# Altium integrated library HORNET-IPG.IntLib: 137 symbols (part 3 of 4)
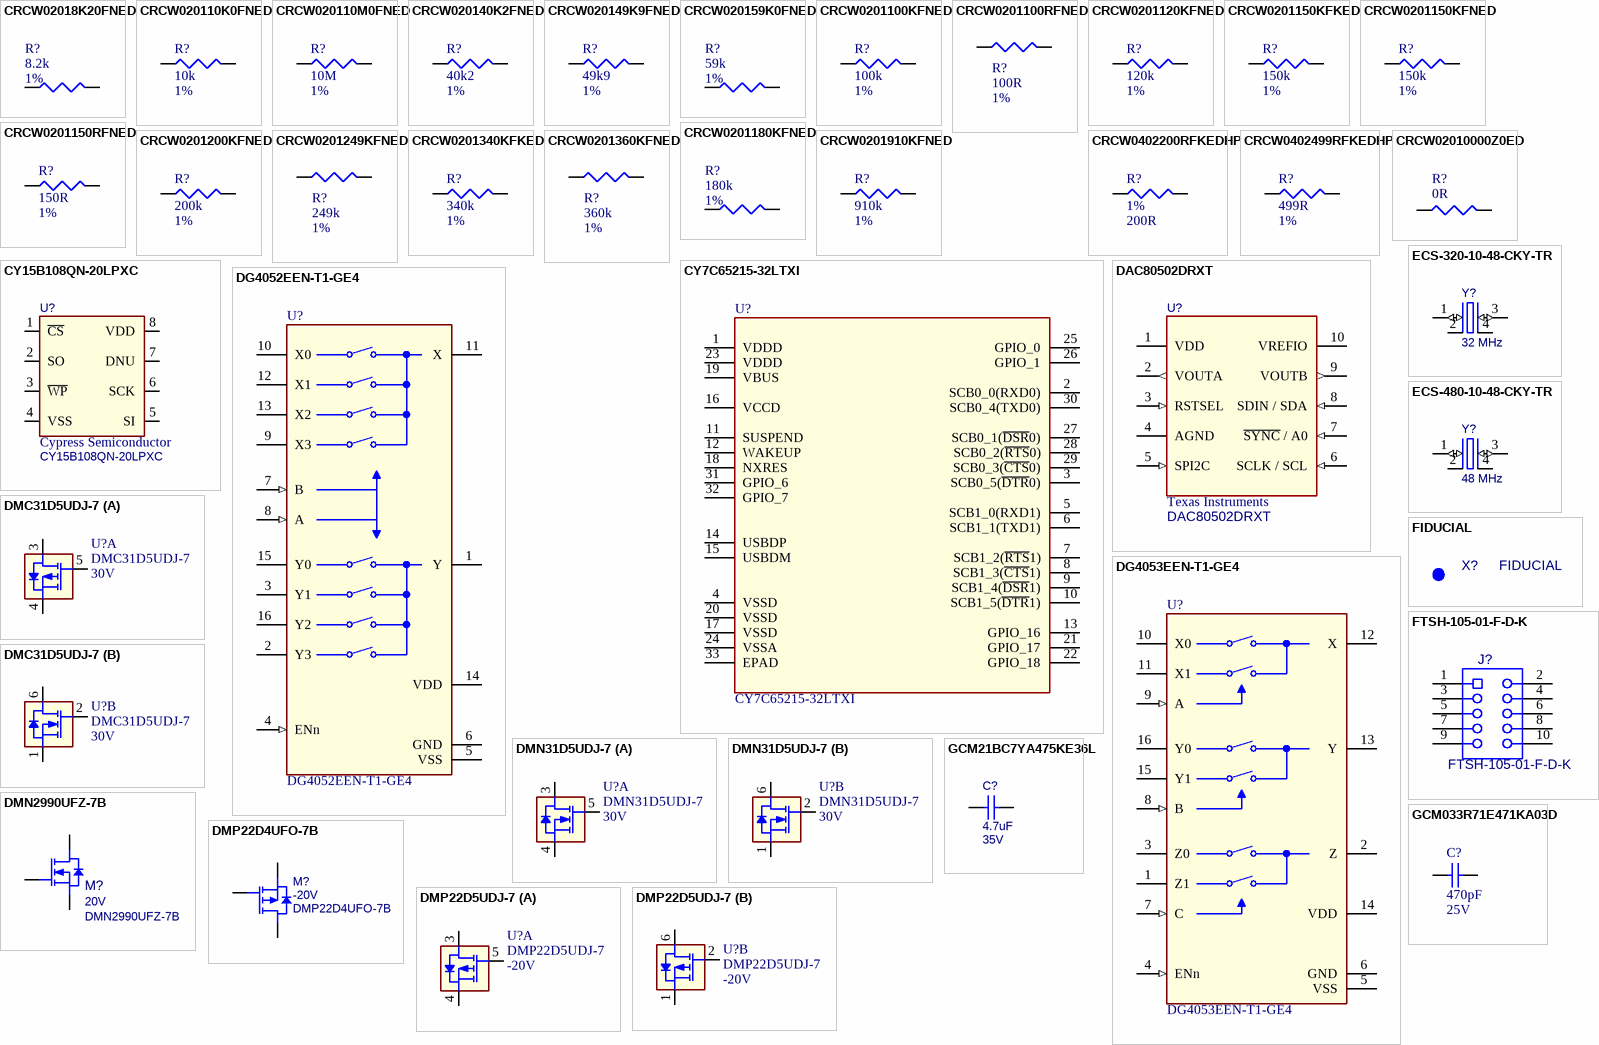
[diagram p6: symbols CRCW02018K20FNED to GCM033R71E471KA03D]

## CRCW0201360KFNED
designator R?  value 360k  Tolerance: 1%  (hidden comment: CRCW0201360KFNED)
Fixed Resistor, Metal Glaze/thick Film, 0.05W, 360000ohm, 30V, 1% +/-Tol, 200ppm/Cel, Surface Mount, 0201; Manufacturer: Vishay; Medical Grade MFR: TBD; Power: 50mW; Rated Temperature: 70°C; Temperature Coefficient: 200ppm/°C; Package Height: 0.23mm; Package Length: 0.6mm; Package Width: 0.3mm; Reference Standard: AEC-Q200; Category: Chip SMD Resistors; Supplier: Digikey; Supplier Part Number: 541-CRCW0201360KFNEDCT-ND; Manufacturer Part Number: CRCW0201360KFNED; RoHS: Yes; Stock: 14607; Pricing: 1=0,1, 10=0,037, 50=0,0242, 100=0,0204, 500=0,01426, 1000=0,01241, 5000=0,00924 (USD); Mounting Technology: Surface Mount; Pins: 2; Package Shape: Rectangular; Case/Package: 0201; Terminal Finish: Nickel; Min Operating Temperature: -55°C; Max Operating Temperature: 155°C; JESD-609 Code: e3; Resistor Type: FIXED RESISTOR; Construction: Chip; Package Style: SMTMeter; Packaging: Tape and Reel; Technology: METAL GLAZE/THICK FILM; Termination: Wraparound; Working Voltage: 30V; Reach SVHC Compliant: Yes; RoHS Compliant: Yes; ComponentLink1URL: https://datasheet.ciiva.com:443/pdfs/VipMasterIC/IC/VISH/VISH-S-A0002932828/VISH-S-A0002932828-1.pdf?src-supplier=IHS+Markit; ComponentLink1Description: https://datasheet.ciiva.com:443/pdfs/VipMasterIC/IC/VISH/VISH-S-A0002932828/VISH-S-A0002932828-1.pdf?src-supplier=IHS+Markit; ComponentLink2URL: https://datasheet.ciiva.com/2577/crcw0201e3-2577346.pdf?src-supplier=Digikey; ComponentLink2Description: https://datasheet.ciiva.com/2577/crcw0201e3-2577346.pdf?src-supplier=Digikey; ComponentLink3URL: https://datasheet.ciiva.com/8943/crcw0201e3-8943180.pdf?src-supplier=Avnet; ComponentLink3Description: https://datasheet.ciiva.com/8943/crcw0201e3-8943180.pdf?src-supplier=Avnet; ComponentLink4URL: https://datasheet.ciiva.com/22674/1700795-22674747.pdf?src-supplier=Element14; ComponentLink4Description: https://datasheet.ciiva.com/22674/1700795-22674747.pdf?src-supplier=Element14; ComponentLink5URL: https://datasheet.ciiva.com/22706/1719906-22706189.pdf?src-supplier=Element14; ComponentLink5Description: https://datasheet.ciiva.com/22706/1719906-22706189.pdf?src-supplier=Element14; ComponentLink6URL: https://datasheet.ciiva.com/7673/1719906-7673964.pdf?src-supplier=Element14; ComponentLink6Description: https://datasheet.ciiva.com/7673/1719906-7673964.pdf?src-supplier=Element14; ComponentLink7URL: https://datasheet.ciiva.com/7673/1719906-7673965.pdf?src-supplier=Element14; ComponentLink7Description: https://datasheet.ciiva.com/7673/1719906-7673965.pdf?src-supplier=Element14; Medical Grade MFR PN: TBD; Supplier 1: Digikey; Supplier Part Number 1: 541-CRCW0201360KFNEDCT-ND
footprint R0201_C (Chip Resistor, 2-Leads, Body 0.60x0.30mm, IPC High Density)
pins: 1, 2

## CRCW0201910KFNED
designator R?  value 910k  Tolerance: 1%  (hidden comment: CRCW0201910KFNED)
Fixed Resistor, Metal Glaze/thick Film, 0.05W, 910000ohm, 30V, 1% +/-Tol, 200ppm/Cel, Surface Mount, 0201; Manufacturer: Vishay Draloric; Medical Grade MFR: TBD; Power: 50mW; Rated Temperature: 70°C; Temperature Coefficient: 200ppm/°C; Category: Chip SMD Resistors; Supplier: Digikey; Supplier Part Number: 541-CRCW02016M80FNEDCT-ND; Manufacturer Part Number: CRCW0201910KFNED; RoHS: Yes; Stock: 8955; Pricing: 1=0,1, 10=0,037, 50=0,0242, 100=0,0204, 500=0,01426, 1000=0,01241, 5000=0,00924 (USD); Mounting Technology: Surface Mount; Pins: 2; Package Shape: Rectangular; Case/Package: 0201; Terminal Finish: Nickel; Min Operating Temperature: -55°C; Max Operating Temperature: 155°C; JESD-609 Code: e3; Resistor Type: FIXED RESISTOR; Packaging: Tape and Reel; Technology: METAL GLAZE/THICK FILM; Termination: Wraparound; Working Voltage: 30V; Reach SVHC Compliant: Yes; RoHS Compliant: Yes; ComponentLink1URL: https://datasheet.ciiva.com:443/pdfs/VipMasterIC/IC/VISH/VISH-S-A0002932828/VISH-S-A0002932828-1.pdf?src-supplier=IHS+Markit; ComponentLink1Description: https://datasheet.ciiva.com:443/pdfs/VipMasterIC/IC/VISH/VISH-S-A0002932828/VISH-S-A0002932828-1.pdf?src-supplier=IHS+Markit; ComponentLink2URL: https://datasheet.ciiva.com/22682/1700795-22682637.pdf?src-supplier=Element14; ComponentLink2Description: https://datasheet.ciiva.com/22682/1700795-22682637.pdf?src-supplier=Element14; Medical Grade MFR PN: TBD; Supplier 1: Digikey; Supplier Part Number 1: 541-CRCW0201910KFNEDDKR-ND
footprint R0201_C (Chip Resistor, 2-Leads, Body 0.60x0.30mm, IPC High Density)
pins: 1, 2

## CRCW0402200RFKEDHP
designator R?  value 200R  Tolerance: 1%  (hidden comment: CRCW0402200RFKEDHP)
Resistor 200 1%, 0402, Non Implant-grade; Manufacturer: Vishay; Medical Grade Manufacturer: None; Power: 200 mW; Temperature Coefficient: 100 ppm/°C; Voltage Rating: 50V; Category: Resistor; Manufacturer Part Number: CRCW0402200RFKEDHP; Medical Grade Manufacturer Part Number: None; Size Code: 0402; Supplier: TBD; Supplier Part Number: TBD; Height: 0.3mm; Width: 0.5mm; Length: 1mm; Supplier 1: Mouser; Supplier Part Number 1: 71-CRCW0402200RFKEDH; Supplier 2: Digikey; Supplier Part Number 2: 541-200YCT-ND; Supplier 3: Digikey; Supplier Part Number 3: 541-200YDKR-ND; Supplier 4: Digikey; Supplier Part Number 4: 541-200YTR-ND
footprint RES0402_REDUCED (Chip Resistor, Body 1.0x0.5mm, IPC High Density)
pins: 1, 2

## CRCW0402499RFKEDHP
designator R?  value 499R  Tolerance: 1%  (hidden comment: CRCW0402499RFKEDHP)
Fixed Resistor, Metal Glaze/thick Film, 0.2W, 499ohm, 50V, 1% +/-Tol, 100ppm/Cel, Surface Mount, 0402; Manufacturer: Vishay Dale; Manufacturer Series: CRCW-HPE3; Medical Grade MFR: TBD; Power: 200mW; Rated Temperature: 70°C; Temperature Coefficient: 100ppm/°C; Package Height: 0.3mm; Package Length: 1mm; Package Width: 0.5mm; Reference Standard: AEC-Q200; Supplier: Digikey; Supplier Part Number: 541-499YCT-ND; Manufacturer Part Number: CRCW0402499RFKEDHP; RoHS: Yes; Category: Chip SMD Resistors; Stock: 50100; Pricing: 1=0.13, 10=0.061, 50=0.0402, 100=0.0341, 500=0.024, 1000=0.02091, 5000=0.01572 (USD); Mounting Technology: Surface Mount; Pins: 2; Package Shape: Rectangular; Case/Package: 0402; Terminal Finish: Nickel; Min Operating Temperature: -55°C; Max Operating Temperature: 155°C; JESD-609 Code: e3; Resistor Type: FIXED RESISTOR; Construction: Chip; Package Style: SMTMeter; Packaging: Tape and Reel; Series: CRCW-HP E3; Technology: METAL GLAZE/THICK FILM; Termination: Wraparound; Working Voltage: 50V; Reach SVHC Compliant: Yes; RoHS Compliant: Yes; ComponentLink1URL: https://datasheet.ciiva.com:443/pdfs/VipMasterIC/IC/VISH/VISH-S-A0009391795/VISH-S-A0009391795-1.pdf?src-supplier=IHS+Markit; ComponentLink1Description: https://datasheet.ciiva.com:443/pdfs/VipMasterIC/IC/VISH/VISH-S-A0009391795/VISH-S-A0009391795-1.pdf?src-supplier=IHS+Markit; ComponentLink2URL: https://datasheet.ciiva.com/5540/crcwhpe3-46056-5540816.pdf?src-supplier=Mouser; ComponentLink2Description: https://datasheet.ciiva.com/5540/crcwhpe3-46056-5540816.pdf?src-supplier=Mouser; ComponentLink3URL: https://datasheet.ciiva.com/8932/crcwhpe3-8932421.pdf?src-supplier=Avnet; ComponentLink3Description: https://datasheet.ciiva.com/8932/crcwhpe3-8932421.pdf?src-supplier=Avnet; Supplier 1: Mouser; Supplier Part Number 1: 71-CRCW0402499RFKEDH; Medical Grade MFR PN: TBD
footprint RES0402_REDUCED (Chip Resistor, Body 1.0x0.5mm, IPC High Density)
footprint R0402 (R0402_B generated by IPC compliant footprint wizard)
pins: 1, 2

## CRCW02010000Z0ED
designator R?  value 0R  (hidden comment: CRCW02010000Z0ED)
Fixed Resistor, Metal Glaze/thick Film, 0.05W, 0ohm, Surface Mount, 0201; Manufacturer: Vishay; Medical Grade MFR: Mini-Systems; Medical Grade MFR PN: MWA96SM-0000F-NS62TR; Power: 50mW; Rated Temperature: 70°C; Package Height: 0.23mm; Package Length: 0.6mm; Package Width: 0.3mm; Reference Standard: AEC-Q200; Category: Chip SMD Resistors; Supplier: Digikey; Supplier Part Number: 541-0.0AGCT-ND; Manufacturer Part Number: CRCW02010000Z0ED; RoHS: Yes; Stock: 701366; Pricing: 1=0,1, 10=0,034, 25=0,026, 50=0,0198, 100=0,0138, 250=0,01112, 500=0,0089, 1000=0,00655, 5000=0,0047 (USD); Mounting Technology: Surface Mount; Pins: 2; Package Shape: Rectangular; Case/Package: 0201; Terminal Finish: Nickel; Min Operating Temperature: -55°C; Max Operating Temperature: 155°C; JESD-609 Code: e3; Resistor Type: FIXED RESISTOR; Construction: Chip; Package Style: SMTMeter; Packaging: Tape and Reel; Technology: METAL GLAZE/THICK FILM; Termination: Wraparound; Reach SVHC Compliant: Yes; RoHS Compliant: Yes; ComponentLink1URL: https://datasheet.ciiva.com:443/pdfs/VipMasterIC/IC/VISH/VISH-S-A0002932828/VISH-S-A0002932828-1.pdf?src-supplier=IHS+Markit; ComponentLink1Description: https://datasheet.ciiva.com:443/pdfs/VipMasterIC/IC/VISH/VISH-S-A0002932828/VISH-S-A0002932828-1.pdf?src-supplier=IHS+Markit; ComponentLink2URL: https://datasheet.ciiva.com/2471/crcw0201e3-2471712.pdf?src-supplier=Digikey; ComponentLink2Description: https://datasheet.ciiva.com/2471/crcw0201e3-2471712.pdf?src-supplier=Digikey; ComponentLink3URL: https://datasheet.ciiva.com/7841/1719906-7841431.pdf?src-supplier=Element14; ComponentLink3Description: https://datasheet.ciiva.com/7841/1719906-7841431.pdf?src-supplier=Element14; ComponentLink4URL: https://datasheet.ciiva.com/7841/1719906-7841430.pdf?src-supplier=Element14; ComponentLink4Description: https://datasheet.ciiva.com/7841/1719906-7841430.pdf?src-supplier=Element14; ComponentLink5URL: https://datasheet.ciiva.com/22665/1847332-22665688.pdf?src-supplier=Element14; ComponentLink5Description: https://datasheet.ciiva.com/22665/1847332-22665688.pdf?src-supplier=Element14; ComponentLink6URL: https://datasheet.ciiva.com/2471/crcw0201e3-2471713.pdf?src-supplier=Digikey; ComponentLink6Description: https://datasheet.ciiva.com/2471/crcw0201e3-2471713.pdf?src-supplier=Digikey; ComponentLink7URL: https://datasheet.ciiva.com/2471/crcw0201e3-2471711.pdf?src-supplier=Digikey; ComponentLink7Description: https://datasheet.ciiva.com/2471/crcw0201e3-2471711.pdf?src-supplier=Digikey; ComponentLink8URL: https://datasheet.ciiva.com/16757/70202042-16757849.pdf?src-supplier=Allied+Electronics; ComponentLink8Description: https://datasheet.ciiva.com/16757/70202042-16757849.pdf?src-supplier=Allied+Electronics; ComponentLink9URL: https://datasheet.ciiva.com/16436/crcw0201e3-16436237.pdf?src-supplier=Future+Electronics; ComponentLink9Description: https://datasheet.ciiva.com/16436/crcw0201e3-16436237.pdf?src-supplier=Future+Electronics; Supplier 1: Digikey; Supplier Part Number 1: 541-0.0AGDKR-ND
footprint R0201_C (Chip Resistor, 2-Leads, Body 0.60x0.30mm, IPC High Density)
pins: 1, 2

## CY7C65215-32LTXI
designator U?
IC USB TO SERIAL BRIDGE 32QFN; Manufacturer: Infineon; Category: ICs; Type: USB to Serial Bridge; Manufacturer Part Number: CY7C65215-32LTXI; RoHS: Yes; Package: 32-QFN; Supplier 1: Digikey; Supplier Part Number 1: CY7C65215-32LTXI-ND
footprint PG-VQFN-32-803
pins: 1 VDDD, 2 SCB0_0(RXD0), 3 SCB0_5(~{DTR}0), 4 VSSD, 5 SCB1_0(RXD1), 6 SCB1_1(TXD1), 7 SCB1_2(~{RTS}1), 8 SCB1_3(~{CTS}1), 9 SCB1_4(~{DSR}1), 10 SCB1_5(~{DTR}1), 11 SUSPEND, 12 WAKEUP, 13 GPIO_16, 14 USBDP, 15 USBDM, 16 VCCD, 17 VSSD, 18 NXRES, 19 VBUS, 20 VSSD, 21 GPIO_17, 22 GPIO_18, 23 VDDD, 24 VSSA, 25 GPIO_0, 26 GPIO_1, 27 SCB0_1(~{DSR}0), 28 SCB0_2(~{RTS}0), 29 SCB0_3(~{CTS}0), 30 SCB0_4(TXD0), 31 GPIO_6, 32 GPIO_7, 33 EPAD

## CY15B108QN-20LPXC
designator U?  Manufacturer: Cypress Semiconductor  (hidden comment: CY15B108QN-20LPXC)
FRAM, 8 Mbit (1024k x 8), SPI, 1.8-3.6V, QFN-8; Medical Grade MFR: TBD; Rating: 3.6V; Category: IC; Length (mm): 3.28 ±0.05; Medical Grade MFR PN: TBD; PCB Footprint: TBD; Thickness (mm): 0.50 ±0.05; Value: CY15B108QN-20LPXC; Width (mm): 3.23 ±0.05; Package Description: TBD; Supplier 1: Heisener; Supplier Part Number 1: CY15B108QN-20LPXC; Status: *; Review: *; Manufacturer Part Number: CY15B108QN-20LPXC
footprint CY_002-18131_GQFN8 (PSON, 8-Leads, Body 3.28x3.23mm, Pitch 0.65mm, IPC High Density)
pins: 1 ~{CS}, 2 SO, 3 ~{WP}, 4 VSS (power), 5 SI, 6 SCK, 7 DNU, 8 VDD (power)

## DAC80502DRXT
designator U?  Manufacturer: Texas Instruments  (hidden comment: DAC80502DRXT)
DAC, 16-bit, Dual channel, SPI/I2C, WSON-10; Rating: 2.7-5.5V; Category: IC; Length (mm): 2.50 ±0.10; Medical Grade MFR: N/A; Medical Grade MFR PN: N/A; Package Description: N/A; PCB Footprint: N/A; Thickness (mm): 0.75 ±0.05; Value: DAC80502DRXT; Width (mm): 2.50 ±0.10; Supplier 1: Digi-Key; Supplier Part Number 1: 296-DAC80502DRXTCT-ND; Status: *; Review: *; Manufacturer Part Number: DAC80502DRXT
footprint TI_DRX0010A (SON, 10-Leads, Body 2.50x2.50mm, Pitch 0.50mm, IPC High Density)
pins: 1 VDD (power), 2 VOUTA (out), 3 RSTSEL (in), 4 AGND (power), 5 SPI2C (in), 6 SCLK / SCL (in), 7 ~{SYNC} / A0 (in), 8 SDIN / SDA (in), 9 VOUTB (out), 10 VREFIO (power)

## DG4052EEN-T1-GE4
designator U?
2 Circuit IC Switch 4:1 78Ohm 16-miniQFN (1.8x2.6); Manufacturer Name: Vishay; Height: 0.6mm; Manufacturer Part Number: DG4052EEN-T1-GE4; Category: IC; Type: Switch; Supplier 1: Mouser; Supplier Part Number 1: 78-DG4052EEN-T1-GE4; Supplier 2: Digikey; Supplier Part Number 2: DG4052EEN-T1-GE4CT-ND; Supplier 3: Digikey; Supplier Part Number 3: DG4052EEN-T1-GE4DKR-ND; Supplier 4: Digikey; Supplier Part Number 4: DG4052EEN-T1-GE4TR-ND
footprint QFN40P180X260X60-16N-D
pins: 1 Y, 2 Y3, 3 Y1, 4 ENn (in), 5 VSS (power), 6 GND (power), 7 B (in), 8 A (in), 9 X3, 10 X0, 11 X, 12 X1, 13 X2, 14 VDD (power), 15 Y0, 16 Y2

## DG4053EEN-T1-GE4
designator U?
2 Circuit IC Switch 4:1 78Ohm 16-miniQFN (1.8x2.6); Manufacturer Name: Vishay; Height: 0.6mm; Manufacturer Part Number: DG4053EEN-T1-GE4; Category: IC; Type: Switch; Supplier 1: Mouser; Supplier Part Number 1: 78-DG4053EEN-T1-GE4; Supplier 2: Digikey; Supplier Part Number 2: DG4053EEN-T1-GE4CT-ND; Supplier 3: Digikey; Supplier Part Number 3: DG4053EEN-T1-GE4DKR-ND; Supplier 4: Digikey; Supplier Part Number 4: DG4053EEN-T1-GE4TR-ND
footprint QFN40P180X260X60-16N-D
pins: 1 Z1, 2 Z, 3 Z0, 4 ENn (in), 5 VSS, 6 GND, 7 C (in), 8 B (in), 9 A (in), 10 X0, 11 X1, 12 X, 13 Y, 14 VDD, 15 Y1, 16 Y0

## DMC31D5UDJ-7
designator U?  Vds(Max): 30V
MOSFET N/P-CH 30V 0.22A SOT963; Manufacturer: Diodes inc.; Number of Channels: 2; Power Dissipation: 350mW; Id(Max): -200mA; Vgs(Max): ±12V; Vth(Max): -1.0V; Ron(Max): 4.5Ohm; Cin: 22.6pF; Manufacturer Part Number: DMC31D5UDJ-7; Category: Transistors; Type: MOSFET array; RoHs: RoHS 2; Package: SOT-963; Supplier 1: Digikey; Supplier Part Number 1: DMC31D5UDJ-7DICT-ND
footprint DIODESINC_SOT-963-6 (SOTFL, 6-Leads, Body 1.00x1.00mm, Pitch 0.35mm, IPC High Density)
part A pins: 3, 4, 5
part B pins: 1, 2, 6

## DMN31D5UDJ-7
designator U?  Vds(Max): 30V
MOSFET 2N-CH 30V 0.22A SOT963; Manufacturer: Diodes inc.; Number of Channels: 2; Power Dissipation: 350mW; Id(Max): 220mA; Vgs(Max): ±12V; Vth(Max): 1.0V; Ron(Max): 4.5Ohm; Cin: 22.6pF; Manufacturer Part Number: DMN31D5UDJ-7; Category: Transistors; Type: MOSFET array; RoHs: RoHS 2; Package: SOT-963; Supplier 1: Digikey; Supplier Part Number 1: 31-DMN31D5UDJ-7CT-ND
footprint DIODESINC_SOT-963-6 (SOTFL, 6-Leads, Body 1.00x1.00mm, Pitch 0.35mm, IPC High Density)
part A pins: 3, 4, 5
part B pins: 1, 2, 6

## DMN2990UFZ-7B
designator M?  Rating: 20V
MOSFET, N-Chan, 20V, 170mA, DFN0606; Manufacturer: Diodes Inc; Medical Grade MFR: TBD; Review: 020823; Category: Transistor; Length (mm): 0.62 ±0.05; Medical Grade MFR PN: TBD; PCB Footprint: TBD; Thickness (mm): 0.38 ±0.02; Value: DMN2990UFZ-7B; Width (mm): 0.62 ±0.05; Supplier 1: Digi-Key; Supplier Part Number 1: DMN2990UFZ-7BDICT-ND; Status: Approved; Manufacturer Part Number: DMN2990UFZ-7B
footprint DIODESINC_X2-DFN0606-3 (DFN, 3-Leads, Body 0.62x0.62mm, Pitch 0.34mm, IPC High Density)
pins: 1 G, 2 S, 3 D

## DMP22D4UFO-7B
designator M?  Rating: -20V  (hidden comment: DMP22D4UFO-7B)
MOSFET, P-chan, -20V, -383mA, DFN0604; Manufacturer: Diodes Inc; Medical Grade MFR: TBD; Review: 020823; Category: Transistor; Length (mm): 0.60 ±0.05; Medical Grade MFR PN: TBD; PCB Footprint: TBD; Thickness (mm): 0.36 ±0.04; Value: DMP22D4UFO-7B; Width (mm): 0.40 ±0.05; Supplier 1: Digi-Key; Supplier Part Number 1: 31-DMP22D4UFO-7BCT-ND; Status: Approved; Manufacturer Part Number: DMP22D4UFO-7B
footprint DIODESINC_X2-DFN0604-3 (DFN, 3-Leads, Body 0.40x0.60mm, Pitch 0.48mm, IPC High Density)
pins: 1 G, 2 S, 3 D

## DMP22D5UDJ-7
designator U?  Vds(Max): -20V
MOSFET 2P-CH 20V 0.36A SOT963; Manufacturer: Diodes inc.; Number of Channels: 2; Power Dissipation: 380mW; Id(Max): -360mA; Vgs(Max): ±8V; Vth(Max): -1.0V; Ron(Max): 5Ohm; Cin: 17pF; Manufacturer Part Number: DMP22D5UDJ-7; Category: Transistors; Type: MOSFET array; RoHs: RoHS 2; Package: SOT-963; Supplier 1: Digikey; Supplier Part Number 1: 31-DMP22D5UDJ-7DKR-ND
footprint DIODESINC_SOT-963-6 (SOTFL, 6-Leads, Body 1.00x1.00mm, Pitch 0.35mm, IPC High Density)
part A pins: 3, 4, 5
part B pins: 1, 2, 6

## ECS-320-10-48-CKY-TR
designator Y?  value 32 MHz  (hidden comment: ECS-320-10-48-CKY-TR)
32 MHz Â±10ppm Crystal 10pF 100 Ohms 4-SMD, No Lead; Manufacturer: ECS Inc.; Medical Grade MFR: TBD; Category: Crystal; Length (mm): 1.20; Medical Grade MFR PN: TBD; PCB Footprint: TBD; Rating: N/A; Thickness (mm): 0.33; Width (mm): 1.00; Package Description: 4-SMD, No Lead; Supplier 1: Digi-Key; Supplier Part Number 1: XC3036CT-ND; Status: *; Review: *; Manufacturer Part Number: ECS-320-10-48-CKY-TR
footprint XTAL_ECS-SMD-CRYSTAL-10-48-CKY-TR
pins: 1 IN/OUT (io), 2 NC, 3 OUT/IN (io), 4 GND

## ECS-480-10-48-CKY-TR
designator Y?  value 48 MHz  (hidden comment: ECS-480-10-48-CKY-TR)
48 MHz Â±10ppm Crystal 10pF 100 Ohms 4-SMD, No Lead; Manufacturer: ECS Inc.; Medical Grade MFR: TBD; Category: Crystal; Length (mm): 1.20; Medical Grade MFR PN: TBD; PCB Footprint: TBD; Rating: N/A; Thickness (mm): 0.33; Width (mm): 1.00; Package Description: 4-SMD, No Lead; Supplier 1: Digi-Key; Supplier Part Number 1: XC3037CT-ND; Status: *; Review: *; Manufacturer Part Number: ECS-480-10-48-CKY-TR
footprint XTAL_ECS-SMD-CRYSTAL-10-48-CKY-TR
pins: 1 IN/OUT (io), 2 NC, 3 OUT/IN (io), 4 GND

## FIDUCIAL
designator X?  (no BOM)
FIDUCIAL_MARK; Manufacturer PN: FIDUCIAL; Status: *; Review: *
footprint Fid_IPC-7351B

## FTSH-105-01-F-D-K
designator J?
Connector, 1.27 mm, 2x5, Male, TH; Manufacturer: Samtec; Review: 020823; Value: FTSH-105-01-F-D-K; Supplier 1: Mouser; Supplier Part Number 1: 200-FTSH10501FDK; Status: Approved; Manufacturer Part Number: FTSH-105-01-F-D-K
footprint SAMTEC_FTSH-105-01-XXX-D-K
pins: 1, 2, 3, 4, 5, 6, 7, 8, 9, 10
1 alternate drawing of the same symbol

## GCM21BC7YA475KE36L
designator C?  value 4.7uF  Rating: 35V  (hidden comment: GCM21BC7YA475KE36L)
Capacitor, 4.7uF, X7S, 35V, 10%, 0805, Implant-grade; Manufacturer: Murata; Medical Grade MFR PN: GCH21BC7YA475KE11; PCB Footprint: cap0805_reduced; Review: 020823; Length (mm): 2.00 ±0.20; Medical Grade MFR: Murata; Thickness (mm): 1.25 ±0.20; Width (mm): 1.25 ±0.20; Category: Capacitor; Package Description: 0805; Check: *; Supplier 1: Arrow Electronics; Supplier Part Number 1: GCM21BC7YA475KE36L; Status: Approved; Manufacturer Part Number: GCM21BC7YA475KE36L
simulation model CAP (Capacitor)
signal-integrity model Cap
footprint CAP0805_REDUCED (Chip Capacitor, Body 2.0x1.2mm, Height 1.45mm, IPC High Density / Chip Capacitor, Body 2.0x1.2mm, Height 1.45mm, IPC High Density)
pins: 1, 2

## GCM033R71E471KA03D
designator C?  value 470pF  Rated DC Voltage (URdc): 25V  (hidden comment: GCM033R71E471KA03D)
Ceramic Capacitor, Multilayer, Ceramic, 25V, 10% +Tol, 10% -Tol, X7R, 15% TC, 0.00047uF, Surface Mount, 0201; Manufacturer: Murata; Multilayer: Yes; Reference Standard: AEC-Q200; Category: Ceramic Capacitors; Supplier: Digikey; Supplier Part Number: 490-17744-1-ND; Manufacturer Part Number: GCM033R71E471KA03D; RoHS: Yes; Stock: 21174; Pricing: 1=0,1, 10=0,028, 50=0,016, 100=0,0125, 500=0,00938, 1000=0,00736, 2500=0,0067, 5000=0,00616 (USD); Mounting Technology: Surface Mount; Pins: 2; Dielectric Material: Ceramic; Package Shape: Rectangular; Case/Package: 0201; Terminal Finish: Nickel; Min Operating Temperature: -55°C; Max Operating Temperature: 125°C; JESD-609 Code: e3; Capacitor Type: Ceramic; Tolerance  (fill in as +-): 10%; Package Style: SMTMeter; Packaging: Tape and Reel; Tolerance (fill in as +-): 10%; Temperature Characteristics Code: X7R; Termination: Wraparound; Length: 0.6mm; Width: 0.3mm; Height: 0.33mm; Reach SVHC Compliant: Yes; RoHS Compliant: Yes; ComponentLink1URL: https://psearch.en.murata.com:443/capacitor/product/GCM033R71E471KA03%23.pdf?src-supplier=IHS+Markit; ComponentLink1Description: https://psearch.en.murata.com:443/capacitor/product/GCM033R71E471KA03%23.pdf?src-supplier=IHS+Markit; ComponentLink2URL: https://datasheet.ciiva.com/11604/product-11604532.pdf?src-supplier=Avnet; ComponentLink2Description: https://datasheet.ciiva.com/11604/product-11604532.pdf?src-supplier=Avnet; ComponentLink3URL: https://datasheet.ciiva.com/163/s0717e-163390.pdf?src-supplier=Digikey; ComponentLink3Description: https://datasheet.ciiva.com/163/s0717e-163390.pdf?src-supplier=Digikey; Supplier 1: Arrow Electronics; Supplier Part Number 1: GCM033R71E471KA03D
footprint C0201_C (Chip Capacitor, 2-Leads, Body 0.60x0.30mm, IPC High Density)
pins: 1, 2

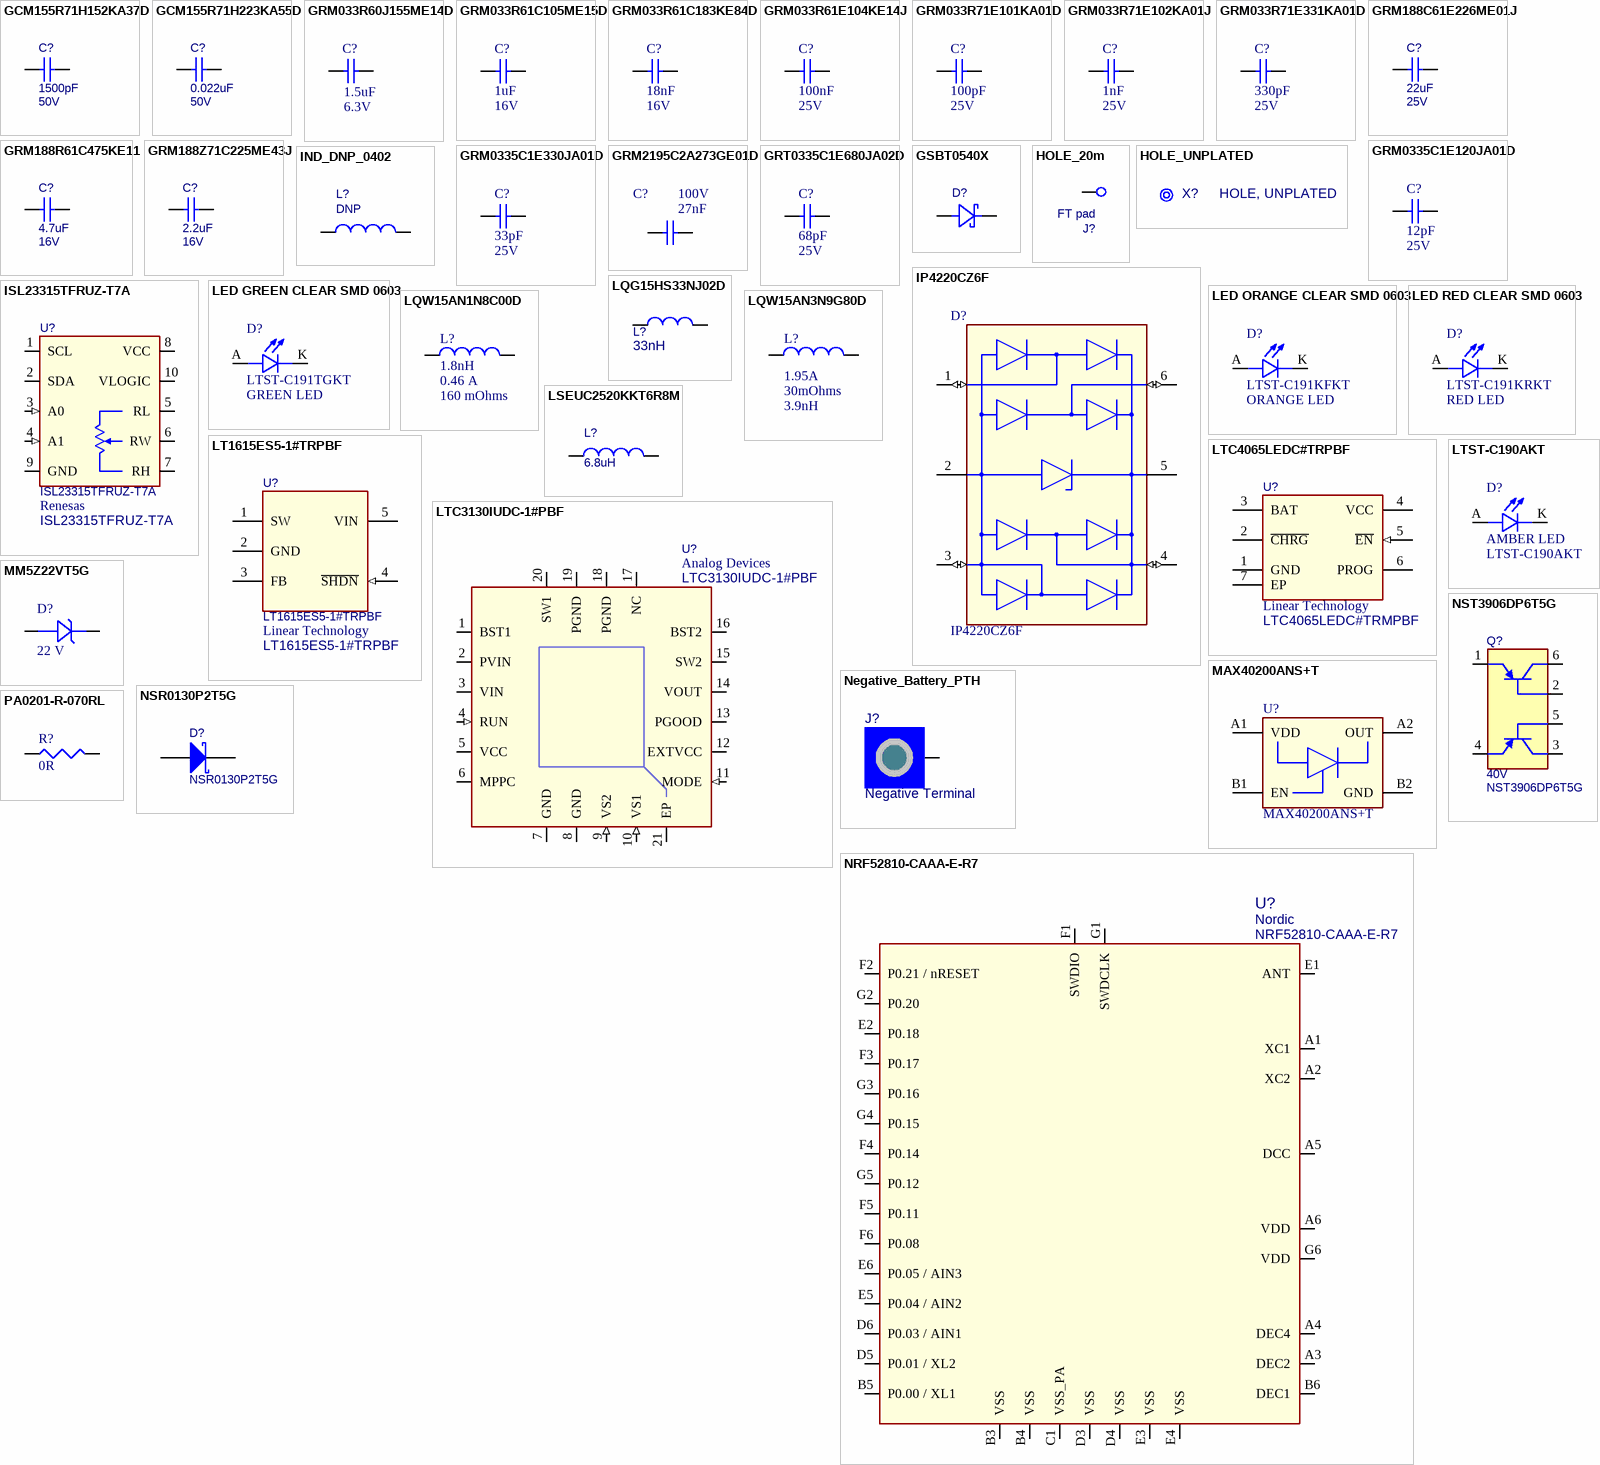
[diagram p2: symbols GCM155R71H152KA37D to PA0201-R-070RL]

## GCM155R71H152KA37D
designator C?  value 1500pF  Rating: 50V  (hidden comment: GCM155R71H152KA37D)
Capacitor, 1500pF, X7R, 50V, 10%, 0402; Manufacturer: Murata; Medical Grade MFR: TBD; PCB Footprint: cap0402_reduced; Review: 020823; Length (mm): 1.00 ±0.05; Medical Grade MFR PN: TBD; Thickness (mm): 0.50 ±0.05; Width (mm): 0.50 ±0.05; Category: Capacitor; Package Description: 0402; Supplier 1: Arrow Electronics; Supplier Part Number 1: GCM155R71H152KA37D; Status: Approved; Manufacturer Part Number: GCM155R71H152KA37D
simulation model CAP (Capacitor)
signal-integrity model Cap
footprint CAP0402_REDUCED (Chip Capacitor, Body 1.0x0.5mm, Height 0.6mm, IPC High Density)
pins: 1, 2

## GCM155R71H223KA55D
designator C?  value 0.022uF  Rating: 50V  (hidden comment: GCM155R71H223KA55D)
Capacitor, 0.022uF, X7R, 50V, 10%, 0402, Implant-grade; Manufacturer: Murata; Medical Grade MFR PN: GCH155R71H223KE01; PCB Footprint: cap0402_reduced; Review: 020823; Length (mm): 1.00 ±0.05; Medical Grade MFR: Murata; Thickness (mm): 0.50 ±0.05; Width (mm): 0.50 ±0.05; Category: Capacitor; Package Description: 0402; Check: *; Supplier 1: Arrow Electronics; Supplier Part Number 1: GCM155R71H223KA55D; Status: Approved; Manufacturer Part Number: GCM155R71H223KA55D
simulation model CAP (Capacitor)
signal-integrity model Cap
footprint CAP0402_REDUCED (Chip Capacitor, Body 1.0x0.5mm, Height 0.6mm, IPC High Density)
pins: 1, 2

## GRM033R60J155ME14D
designator C?  value 1.5uF  Rated DC Voltage (URdc): 6.3V  (hidden comment: GRM033R60J155ME14D)
Ceramic Capacitor, Multilayer, Ceramic, 6.3V, 20% +Tol, 20% -Tol, X5R, 15% TC, 1.5uF, Surface Mount, 0201; Manufacturer: Murata; Multilayer: Yes; Supplier: Digikey; Supplier Part Number: 490-13223-1-ND; Manufacturer Part Number: GRM033R60J155ME14D; RoHS: Yes; Category: Ceramic Capacitors; Stock: 47845; Pricing: 1=0,2, 10=0,131, 50=0,083, 100=0,0664, 500=0,04794, 1000=0,04241, 2500=0,04056, 5000=0,03687 (USD); Mounting Technology: Surface Mount; Pins: 2; Dielectric Material: Ceramic; Package Shape: Rectangular; Case/Package: 0201; Min Operating Temperature: -55°C; Max Operating Temperature: 85°C; Capacitor Type: Ceramic; Tolerance  (fill in as +-): 20%; Packaging: Tape and Reel; Tolerance (fill in as +-): 20%; Temperature Characteristics Code: X5R; Termination: Wraparound; Reach SVHC Compliant: Yes; RoHS Compliant: Yes; ComponentLink1URL: https://psearch.en.murata.com:443/capacitor/product/GRM033R60J155ME14%23.pdf?src-supplier=IHS+Markit; ComponentLink1Description: https://psearch.en.murata.com:443/capacitor/product/GRM033R60J155ME14%23.pdf?src-supplier=IHS+Markit; ComponentLink2URL: http://search.murata.co.jp/Ceramy/image/img/A01X/G101/ENG/GRM033R60J155ME14-01.pdf?src-supplier=Digikey; ComponentLink2Description: http://search.murata.co.jp/Ceramy/image/img/A01X/G101/ENG/GRM033R60J155ME14-01.pdf?src-supplier=Digikey; ComponentLink3URL: http://search.murata.co.jp/Ceramy/image/img/A01X/partnumbering_e_01.pdf?src-supplier=Digikey; ComponentLink3Description: http://search.murata.co.jp/Ceramy/image/img/A01X/partnumbering_e_01.pdf?src-supplier=Digikey; Supplier 1: Arrow Electronics; Supplier Part Number 1: GRM033R60J155ME14D
footprint C0201_C (Chip Capacitor, 2-Leads, Body 0.60x0.30mm, IPC High Density)
pins: 1, 2

## GRM033R61C105ME15D
designator C?  value 1uF  Rated DC Voltage (URdc): 16V  (hidden comment: GRM033R61C105ME15D)
Ceramic Capacitor, Multilayer, Ceramic, 16V, 20% +Tol, 20% -Tol, X5R, 15% TC, 1uF, Surface Mount, 0201; Manufacturer: Murata; Category: Ceramic Capacitors; Supplier: Digikey; Supplier Part Number: 490-18654-1-ND; Manufacturer Part Number: GRM033R61C105ME15D; RoHS: No; Stock: 132893; Pricing: 1=0,16, 10=0,105, 50=0,0628, 100=0,0493, 500=0,03644, 1000=0,03017, 2500=0,02808, 5000=0,02569 (USD); Supplier 1: Avnet; Supplier Part Number 1: GRM033R61C105ME15D
footprint C0201_C (Chip Capacitor, 2-Leads, Body 0.60x0.30mm, IPC High Density)
pins: 1, 2

## GRM033R61C183KE84D
designator C?  value 18nF  Rated DC Voltage (URdc): 16V  (hidden comment: GRM033R61C183KE84D)
Ceramic Capacitor, Multilayer, Ceramic, 16V, 20% +Tol, 20% -Tol, X5R, 15% TC, 0.018uF, Surface Mount, 0201; Manufacturer: Murata; Multilayer: Yes; Manufacturer Part Number: GRM033R61C183KE84D; Category: Ceramic Capacitors; Supplier 1: Digikey; Supplier Part Number 1: 490-10414-1-ND; RoHS: Yes; Stock: 109140; Pricing: 1=0,1, 10=0,044, 50=0,0254, 100=0,0196, 500=0,01478, 1000=0,01161, 2500=0,01056, 5000=0,00971 (USD); Mounting Technology: Surface Mount; Pins: 2; Dielectric Material: Ceramic; Package Shape: Rectangular; Case/Package: 0201; Terminal Finish: Nickel; Min Operating Temperature: -55°C; Max Operating Temperature: 85°C; JESD-609 Code: e3; Capacitor Type: Ceramic; Tolerance  (fill in as +-): 20%; Package Style: SMTMeter; Packaging: Tape and Reel; Tolerance (fill in as +-): 20%; Temperature Characteristics Code: X5R; Termination: Wraparound; Length: 0.6mm; Width: 0.3mm; Height: 0.3mm; Reach SVHC Compliant: Yes; RoHS Compliant: Yes; ComponentLink1URL: https://psearch.en.murata.com:443/capacitor/product/GRM033R61C223ME84%23.pdf?src-supplier=IHS+Markit; ComponentLink1Description: https://psearch.en.murata.com:443/capacitor/product/GRM033R61C223ME84%23.pdf?src-supplier=IHS+Markit; ComponentLink2URL: http://www.farnell.com/datasheets/2735417.pdf?src-supplier=Farnell; ComponentLink2Description: http://www.farnell.com/datasheets/2735417.pdf?src-supplier=Farnell; ComponentLink3URL: http://search.murata.co.jp/Ceramy/image/img/A01X/G101/ENG/GRM033R61C223ME84-01.pdf?src-supplier=Digikey; ComponentLink3Description: http://search.murata.co.jp/Ceramy/image/img/A01X/G101/ENG/GRM033R61C223ME84-01.pdf?src-supplier=Digikey
footprint C0201_C (Chip Capacitor, 2-Leads, Body 0.60x0.30mm, IPC High Density)
pins: 1, 2

## GRM033R61E104KE14J
designator C?  value 100nF  Rated DC Voltage (URdc): 25V  (hidden comment: GRM033R61E104KE14J)
Ceramic Capacitor, Multilayer, Ceramic, 25V, 10% +Tol, 10% -Tol, X5R, 15% TC, 0.1uF, Surface Mount, 0201; Manufacturer: Murata; Multilayer: Yes; Category: Ceramic Capacitors; Supplier: Digikey; Supplier Part Number: 490-14571-1-ND; Manufacturer Part Number: GRM033R61E104KE14J; RoHS: Yes; Stock: 1540851; Pricing: 1=0,1, 10=0,033, 50=0,0192, 100=0,0148, 500=0,01118, 1000=0,00878, 2500=0,00798, 5000=0,00734 (USD); Mounting Technology: Surface Mount; Pins: 2; Dielectric Material: Ceramic; Package Shape: Rectangular; Case/Package: 0201; Terminal Finish: Nickel; Min Operating Temperature: -55°C; Max Operating Temperature: 85°C; JESD-609 Code: e3; Capacitor Type: Ceramic; Tolerance  (fill in as +-): 10%; Package Style: SMTMeter; Packaging: Tape and Reel; Tolerance (fill in as +-): 10%; Temperature Characteristics Code: X5R; Termination: Wraparound; Length: 0.6mm; Width: 0.3mm; Height: 0.3mm; Reach SVHC Compliant: Yes; RoHS Compliant: Yes; ComponentLink1URL: https://psearch.en.murata.com:443/capacitor/product/GRM033R61E104KE14%23.pdf?src-supplier=IHS+Markit; ComponentLink1Description: https://psearch.en.murata.com:443/capacitor/product/GRM033R61E104KE14%23.pdf?src-supplier=IHS+Markit; ComponentLink2URL: http://www.mouser.com/ds/2/281/c02e-2905.pdf?src-supplier=Mouser; ComponentLink2Description: http://www.mouser.com/ds/2/281/c02e-2905.pdf?src-supplier=Mouser; ComponentLink3URL: http://search.murata.co.jp/Ceramy/image/img/A01X/G101/ENG/GRM033R61E104KE14-01.pdf?src-supplier=Digikey; ComponentLink3Description: http://search.murata.co.jp/Ceramy/image/img/A01X/G101/ENG/GRM033R61E104KE14-01.pdf?src-supplier=Digikey; ComponentLink4URL: https://search.murata.co.jp/Ceramy/image/img/A01X/G101/ENG/GRM033R61E104KE14-01.pdf?src-supplier=Digikey; ComponentLink4Description: https://search.murata.co.jp/Ceramy/image/img/A01X/G101/ENG/GRM033R61E104KE14-01.pdf?src-supplier=Digikey; Supplier 1: Arrow Electronics; Supplier Part Number 1: GRM033R61E104KE14J
footprint C0201_C (Chip Capacitor, 2-Leads, Body 0.60x0.30mm, IPC High Density)
pins: 1, 2

## GRM033R71E101KA01D
designator C?  value 100pF  Rated DC Voltage (URdc): 25V  (hidden comment: GRM033R71E101KA01D)
Ceramic Capacitor, Multilayer, Ceramic, 25V, 10% +Tol, 10% -Tol, X7R, 15% TC, 0.0001uF, Surface Mount, 0201; Manufacturer: Murata; Multilayer: Yes; Category: Ceramic Capacitors; Supplier: Digikey; Supplier Part Number: 490-3172-1-ND; Manufacturer Part Number: GRM033R71E101KA01D; RoHS: Yes; Stock: 605708; Pricing: 1=0,1, 10=0,01, 50=0,0056, 100=0,0043, 500=0,00324, 1000=0,00255, 2500=0,00232, 5000=0,00213 (USD); Mounting Technology: Surface Mount; Pins: 2; Dielectric Material: Ceramic; Package Shape: Rectangular; Case/Package: 0201; Terminal Finish: Nickel; Min Operating Temperature: -55°C; Max Operating Temperature: 125°C; JESD-609 Code: e3; Capacitor Type: Ceramic; Tolerance  (fill in as +-): 10%; Package Style: SMTMeter; Packaging: Tape and Reel; Tolerance (fill in as +-): 10%; Temperature Characteristics Code: X7R; Termination: Wraparound; Length: 0.6mm; Width: 0.3mm; Height: 0.3mm; Reach SVHC Compliant: Yes; RoHS Compliant: Yes; ComponentLink1URL: https://psearch.en.murata.com:443/capacitor/product/GRM033R71E101KA01%23.pdf?src-supplier=IHS+Markit; ComponentLink1Description: https://psearch.en.murata.com:443/capacitor/product/GRM033R71E101KA01%23.pdf?src-supplier=IHS+Markit; ComponentLink2URL: https://datasheet.ciiva.com/129/grm033r71e101ka01-01-129915.pdf?src-supplier=Digikey; ComponentLink2Description: https://datasheet.ciiva.com/129/grm033r71e101ka01-01-129915.pdf?src-supplier=Digikey; ComponentLink3URL: https://datasheet.ciiva.com/129/grm033r71e101ka01-01-129916.pdf?src-supplier=Digikey; ComponentLink3Description: https://datasheet.ciiva.com/129/grm033r71e101ka01-01-129916.pdf?src-supplier=Digikey; ComponentLink4URL: https://datasheet.ciiva.com/129/grm033r71e101ka01-01-129917.pdf?src-supplier=Digikey; ComponentLink4Description: https://datasheet.ciiva.com/129/grm033r71e101ka01-01-129917.pdf?src-supplier=Digikey; ComponentLink5URL: https://datasheet.ciiva.com/18184/getdatasheetpartid-228478-18184102.pdf?src-supplier=Verical; ComponentLink5Description: https://datasheet.ciiva.com/18184/getdatasheetpartid-228478-18184102.pdf?src-supplier=Verical; ComponentLink6URL: https://datasheet.ciiva.com/29199/455792-da-01-en-vs-kondensator-0201-29199171.pdf?src-supplier=Conrad; ComponentLink6Description: https://datasheet.ciiva.com/29199/455792-da-01-en-vs-kondensator-0201-29199171.pdf?src-supplier=Conrad; ComponentLink7URL: https://datasheet.ciiva.com/11605/product-11605541.pdf?src-supplier=Avnet; ComponentLink7Description: https://datasheet.ciiva.com/11605/product-11605541.pdf?src-supplier=Avnet; ComponentLink8URL: https://datasheet.ciiva.com/16370/product-16370826.pdf?src-supplier=Future+Electronics; ComponentLink8Description: https://datasheet.ciiva.com/16370/product-16370826.pdf?src-supplier=Future+Electronics; Supplier 1: Arrow Electronics; Supplier Part Number 1: GRM033R71E101KA01D
footprint C0201_C (Chip Capacitor, 2-Leads, Body 0.60x0.30mm, IPC High Density)
pins: 1, 2

## GRM033R71E102KA01J
designator C?  value 1nF  Rated DC Voltage (URdc): 25V  (hidden comment: GRM033R71E102KA01J)
Ceramic Capacitor, Multilayer, Ceramic, 25V, 10% +Tol, 10% -Tol, X7R, 15% TC, 0.001uF, Surface Mount, 0201; Manufacturer: Murata; Multilayer: Yes; Supplier: Digikey; Supplier Part Number: 490-8161-1-ND; Manufacturer Part Number: GRM033R71E102KA01J; RoHS: Yes; Category: Ceramic Capacitors; Stock: 136185; Pricing: 1=0,1, 10=0,01, 50=0,0056, 100=0,0044, 500=0,00328, 1000=0,00258, 2500=0,00234, 5000=0,00216 (USD); Mounting Technology: Surface Mount; Pins: 2; Dielectric Material: Ceramic; Package Shape: Rectangular; Case/Package: 0201; Terminal Finish: Nickel; Min Operating Temperature: -55°C; Max Operating Temperature: 125°C; Capacitor Type: Ceramic; Tolerance  (fill in as +-): 10%; Packaging: Tape and Reel; Tolerance (fill in as +-): 10%; Temperature Characteristics Code: X7R; Termination: Wraparound; JESD-609 Code: e3; Package Style: SMTMeter; Length: 0.6mm; Width: 0.3mm; Height: 0.3mm; Reach SVHC Compliant: Yes; RoHS Compliant: Yes; ComponentLink1URL: https://psearch.en.murata.com:443/capacitor/product/GRM033R71E102KA01%23.pdf?src-supplier=IHS+Markit; ComponentLink1Description: https://psearch.en.murata.com:443/capacitor/product/GRM033R71E102KA01%23.pdf?src-supplier=IHS+Markit; ComponentLink2URL: https://datasheet.ciiva.com/5453/product-5453157.pdf?src-supplier=Mouser; ComponentLink2Description: https://datasheet.ciiva.com/5453/product-5453157.pdf?src-supplier=Mouser; ComponentLink3URL: https://datasheet.ciiva.com/11621/product-11621675.pdf?src-supplier=Avnet; ComponentLink3Description: https://datasheet.ciiva.com/11621/product-11621675.pdf?src-supplier=Avnet; Supplier 1: Arrow Electronics; Supplier Part Number 1: GRM033R71E102KA01J
footprint C0201_C (Chip Capacitor, 2-Leads, Body 0.60x0.30mm, IPC High Density)
pins: 1, 2

## GRM033R71E331KA01D
designator C?  value 330pF  Rated DC Voltage (URdc): 25V  (hidden comment: GRM033R71E331KA01D)
Ceramic Capacitor, Multilayer, Ceramic, 25V, 10% +Tol, 10% -Tol, X7R, 15% TC, 0.00033uF, Surface Mount, 0201; Manufacturer: Murata; Multilayer: Yes; Supplier: Digikey; Supplier Part Number: 490-3178-1-ND; Manufacturer Part Number: GRM033R71E331KA01D; RoHS: Yes; Category: Ceramic Capacitors; Stock: 408699; Pricing: 1=0,1, 10=0,02, 50=0,0118, 100=0,0091, 500=0,00684, 1000=0,00538, 2500=0,00489, 5000=0,0045 (USD); Mounting Technology: Surface Mount; Pins: 2; Dielectric Material: Ceramic; Package Shape: Rectangular; Case/Package: 0201; Terminal Finish: Nickel; Min Operating Temperature: -55°C; Max Operating Temperature: 125°C; JESD-609 Code: e3; Capacitor Type: Ceramic; Tolerance  (fill in as +-): 10%; Package Style: SMTMeter; Packaging: Tape and Reel; Tolerance (fill in as +-): 10%; Temperature Characteristics Code: X7R; Termination: Wraparound; Length: 0.6mm; Width: 0.3mm; Height: 0.3mm; Reach SVHC Compliant: Yes; RoHS Compliant: Yes; Supplier 1: Arrow Electronics; Supplier Part Number 1: GRM033R71E331KA01D; ComponentLink1URL: https://psearch.en.murata.com:443/capacitor/product/GRM033R71E331KA01%23.pdf?src-supplier=IHS+Markit; ComponentLink1Description: https://psearch.en.murata.com:443/capacitor/product/GRM033R71E331KA01%23.pdf?src-supplier=IHS+Markit; ComponentLink2URL: https://datasheet.ciiva.com/16396/product-16396160.pdf?src-supplier=Future+Electronics; ComponentLink2Description: https://datasheet.ciiva.com/16396/product-16396160.pdf?src-supplier=Future+Electronics; ComponentLink3URL: https://datasheet.ciiva.com/18184/getdatasheetpartid-228493-18184123.pdf?src-supplier=Verical; ComponentLink3Description: https://datasheet.ciiva.com/18184/getdatasheetpartid-228493-18184123.pdf?src-supplier=Verical; ComponentLink4URL: https://datasheet.ciiva.com/29199/455855-da-01-en-vs-kondensator-0201-29199192.pdf?src-supplier=Conrad; ComponentLink4Description: https://datasheet.ciiva.com/29199/455855-da-01-en-vs-kondensator-0201-29199192.pdf?src-supplier=Conrad; ComponentLink5URL: https://datasheet.ciiva.com/6068/482872-6068150.pdf?src-supplier=Farnell; ComponentLink5Description: https://datasheet.ciiva.com/6068/482872-6068150.pdf?src-supplier=Farnell; ComponentLink6URL: https://datasheet.ciiva.com/7937/482872-7937607.pdf?src-supplier=Element14; ComponentLink6Description: https://datasheet.ciiva.com/7937/482872-7937607.pdf?src-supplier=Element14; ComponentLink7URL: https://datasheet.ciiva.com/7937/482872-7937608.pdf?src-supplier=Element14; ComponentLink7Description: https://datasheet.ciiva.com/7937/482872-7937608.pdf?src-supplier=Element14; ComponentLink8URL: https://datasheet.ciiva.com/161/grm033r71e331ka01-01-161478.pdf?src-supplier=Digikey; ComponentLink8Description: https://datasheet.ciiva.com/161/grm033r71e331ka01-01-161478.pdf?src-supplier=Digikey; ComponentLink9URL: https://datasheet.ciiva.com/161/grm033r71e331ka01-01-161479.pdf?src-supplier=Digikey; ComponentLink9Description: https://datasheet.ciiva.com/161/grm033r71e331ka01-01-161479.pdf?src-supplier=Digikey; ComponentLink10URL: https://datasheet.ciiva.com/11604/product-11604876.pdf?src-supplier=Avnet; ComponentLink10Description: https://datasheet.ciiva.com/11604/product-11604876.pdf?src-supplier=Avnet
footprint C0201_C (Chip Capacitor, 2-Leads, Body 0.60x0.30mm, IPC High Density)
pins: 1, 2

## GRM188C61E226ME01J
designator C?  value 22uF  Rating: 25V  (hidden comment: GRM188C61E226ME01J)
Capacitor, 22uF, X5S, 25V, 20%, 0603; Manufacturer: Murata; PCB Footprint: C0603_C; Review: 020823; Length (mm): 1.6mm; Manufacturer Part Number: GRM188C61E226ME01J; Medical Grade MFR: N/A; Medical Grade MFR PN: N/A; Thickness (mm): 0.8mm; Width (mm): 0.8mm; Category: Capacitor; Package Description: 0603; Status: Approved; Supplier 1: Mouser; Supplier Part Number 1: 81-GRM188C61E226ME1J; Supplier 2: Digikey; Supplier Part Number 2: 490-GRM188C61E226ME01JCT-ND; Supplier 3: Digikey; Supplier Part Number 3: 490-GRM188C61E226ME01JDKR-ND; Supplier 4: Digikey; Supplier Part Number 4: 490-GRM188C61E226ME01JTR-ND
footprint C0603 (C0603_B generated by IPC compliant footprint wizard)
pins: 1, 2

## GRM188R61C475KE11
designator C?  value 4.7uF  Rating: 16V  (hidden comment: GRM188R61C475KE11)
Capacitor, 4.7uF, X5R, 16V, 10%, 0603, Implant-grade; Manufacturer: Murata; Medical Grade MFR PN: GCH188R61C475KE11; PCB Footprint: cap0603_reduced; Length (mm): 1.60 ±0.10; Medical Grade MFR: Murata; Thickness (mm): 0.80 ±0.10; Width (mm): 0.80 ±0.10; Category: Capacitor; Package Description: 0603; Check: *; Supplier 1: Arrow Electronics; Supplier Part Number 1: GRM188R61C475KE11D; Status: *; Review: *; Manufacturer Part Number: GRM188R61C475KE11
simulation model CAP (Capacitor)
signal-integrity model Cap
footprint CAP0603_REDUCED (Chip Capacitor, Body 1.6x0.8mm, Height 1.0mm, IPC High Density)
pins: 1, 2

## GRM188Z71C225ME43J
designator C?  value 2.2uF  Rating: 16V  (hidden comment: GRM188Z71C225ME43J)
Capacitor, 2.2uF, X7R, 16V, 10%, 0603, Implant-grade; Manufacturer: Murata; Medical Grade MFR: TBD; PCB Footprint: cap0603_reduced; Review: 020823; Length (mm): 1.60 ±0.10; Medical Grade MFR PN: TBD; Thickness (mm): 0.80 ±0.10; Width (mm): 0.80 ±0.10; Category: Capacitor; Package Description: 0603; Supplier 1: Digi-Key; Supplier Part Number 1: 490-GRM188Z71C225ME43JCT-ND; Status: Approved; Manufacturer Part Number: GRM188Z71C225ME43J
simulation model CAP (Capacitor)
signal-integrity model Cap
footprint CAP0603_REDUCED (Chip Capacitor, Body 1.6x0.8mm, Height 1.0mm, IPC High Density)
pins: 1, 2

## GRM0335C1E120JA01D
designator C?  value 12pF  Rated DC Voltage (URdc): 25V  (hidden comment: GRM0335C1E120JA01D)
Ceramic Capacitor, Multilayer, Ceramic, 25V, 5% +Tol, 5% -Tol, C0G, 30ppm/Cel TC, 0.000012uF, Surface Mount, 0201; Manufacturer: Murata; Multilayer: Yes; Category: Ceramic Capacitors; Supplier: Digikey; Supplier Part Number: 490-3144-1-ND; Manufacturer Part Number: GRM0335C1E120JA01D; RoHS: Yes; Stock: 4384132; Pricing: 1=0,1, 10=0,011, 50=0,0062, 100=0,0048, 500=0,0036, 1000=0,00283, 2500=0,00258, 5000=0,00237 (USD); Mounting Technology: Surface Mount; Pins: 2; Dielectric Material: Ceramic; Package Shape: Rectangular; Case/Package: 0201; Terminal Finish: Nickel; Min Operating Temperature: -55°C; Max Operating Temperature: 125°C; Termination: Wraparound; JESD-609 Code: e3; Capacitor Type: Ceramic; Tolerance  (fill in as +-): 5%; Packaging: Tape and Reel; Tolerance (fill in as +-): 5%; Temperature Characteristics Code: C0G; Reach SVHC Compliant: Yes; RoHS Compliant: Yes; ComponentLink1URL: https://datasheet.ciiva.com:443/pdfs/VipMasterIC/IC/MURE/MURE-S-A0004347008/MURE-S-A0004348737-1.pdf?src-supplier=IHS+Markit; ComponentLink1Description: https://datasheet.ciiva.com:443/pdfs/VipMasterIC/IC/MURE/MURE-S-A0004347008/MURE-S-A0004348737-1.pdf?src-supplier=IHS+Markit; Supplier 1: Arrow Electronics; Supplier Part Number 1: GRM0335C1E120JA01D
footprint C0201_C (Chip Capacitor, 2-Leads, Body 0.60x0.30mm, IPC High Density)
pins: 1, 2

## GRM0335C1E330JA01D
designator C?  value 33pF  Rated DC Voltage (URdc): 25V  (hidden comment: GRM0335C1E330JA01D)
Ceramic Capacitor, Multilayer, Ceramic, 25V, 5% +Tol, 5% -Tol, C0G, 30ppm/Cel TC, 0.000033uF, Surface Mount, 0201; Manufacturer: Murata; Multilayer: Yes; Supplier: Digikey; Supplier Part Number: 490-10678-1-ND; Manufacturer Part Number: GRM0335C1E330JA01D; RoHS: Yes; Category: Ceramic Capacitors; Stock: 355128; Pricing: 1=0,1, 10=0,011, 50=0,0062, 100=0,0048, 500=0,0036, 1000=0,00283, 2500=0,00258, 5000=0,00237 (USD); Mounting Technology: Surface Mount; Pins: 2; Dielectric Material: Ceramic; Package Shape: Rectangular; Case/Package: 0201; Terminal Finish: Nickel; Min Operating Temperature: -55°C; Max Operating Temperature: 125°C; JESD-609 Code: e3; Capacitor Type: Ceramic; Tolerance  (fill in as +-): 5%; Package Style: SMTMeter; Packaging: Tape and Reel; Tolerance (fill in as +-): 5%; Temperature Characteristics Code: C0G; Termination: Wraparound; Length: 0.6mm; Width: 0.3mm; Height: 0.3mm; Reach SVHC Compliant: Yes; RoHS Compliant: Yes; ComponentLink1URL: https://datasheet.ciiva.com:443/pdfs/VipMasterIC/IC/MURE/MURE-S-A0004347008/MURE-S-A0004347461-1.pdf?src-supplier=IHS+Markit; ComponentLink1Description: https://datasheet.ciiva.com:443/pdfs/VipMasterIC/IC/MURE/MURE-S-A0004347008/MURE-S-A0004347461-1.pdf?src-supplier=IHS+Markit; ComponentLink2URL: https://datasheet.ciiva.com/29538/partnumbering-e-01-29538933.pdf?src-supplier=Digikey; ComponentLink2Description: https://datasheet.ciiva.com/29538/partnumbering-e-01-29538933.pdf?src-supplier=Digikey; Supplier 1: Arrow Electronics; Supplier Part Number 1: GRM0335C1E330JA01D
footprint C0201_C (Chip Capacitor, 2-Leads, Body 0.60x0.30mm, IPC High Density)
pins: 1, 2

## GRM2195C2A273GE01D
designator C?  value 27nF  Voltage Rating: 100V  (hidden comment: GRM2195C2A273GE01D)
Capacitor, 27nF, C0G, 100VDC, 2%, 0805, Implant-grade; Manufacturer: Murata; Medical Grade Manufacturer: TBD; Category: Capacitor; Temperature Coefficient: -; Manufacturer Part Number: GRM2195C2A273GE01D; Medical Grade Manufacturer Part Number: TBD; Size Code: Size Code; Supplier: TBD; Supplier Part Number: 0.85mm; Height: 1.25mm; Width: 1.25mm; Length: 2mm; Tolerance: 2%; Dielectric: C0G; Supplier 1: Mouser; Supplier Part Number 1: 81-GRM2195C2A273GE1D; Supplier 2: Digikey; Supplier Part Number 2: 490-GRM2195C2A273GE01DCT-ND; Supplier 3: Digikey; Supplier Part Number 3: 490-GRM2195C2A273GE01DDKR-ND; Supplier 4: Digikey; Supplier Part Number 4: 490-GRM2195C2A273GE01DTR-ND
footprint CAP0805_REDUCED (Chip Capacitor, Body 2.0x1.2mm, Height 1.45mm, IPC High Density / Chip Capacitor, Body 2.0x1.2mm, Height 1.45mm, IPC High Density)
pins: 1, 2

## GRT0335C1E680JA02D
designator C?  value 68pF  Voltage Rating: 25V  (hidden comment: GRT0335C1E680JA02D)
Capacitor, 68pF, C0G, 25V, 5%, 0201, Implant-grade; Manufacturer: Murata; Medical Grade Manufacturer: TBD; Category: Capacitor; Manufacturer Part Number: GRT0335C1E680JA02D; Medical Grade Manufacturer Part Number: TBD; Size Code: Size Code; Supplier: TBD; Supplier Part Number: TBD; Height: 0.3mm; Width: 0.3mm; Length: 0.6mm; Tolerance: 5%; Dielectric: C0G; Supplier 1: Mouser; Supplier Part Number 1: 81-GRT0335C1E680JA2D; Supplier 2: Digikey; Supplier Part Number 2: 490-GRT0335C1E680JA02DTR-ND
footprint C0201_C (Chip Capacitor, 2-Leads, Body 0.60x0.30mm, IPC High Density)
pins: 1, 2

## GSBT0540X
designator D?  (value not drawn)
DIODE SCHOTTKY 40V 500MA SOD523; Manufacturer: Good-Ark Semiconductor; Medical Grade MFR: TBD; Rating: 40V, 500mA; Medical Grade MFR PN: TBD; PCB Footprint: TBD; Category: Diode; Package Description: SOD-523; Supplier 1: Digikey; Supplier Part Number 1: 4786-GSBT0540XCT-ND; Manufacturer Part Number: GSBT0540X
footprint STM_SOD-523_R
pins: 1, 2

## HOLE_20m
designator J?, comment value FT pad  (hidden comment: THPAD_20m)  (no BOM)
FT pad, Thru-hole, 20 mil hole; PCB Footprint: TBD; Category: FT pad; Length (mm): TBD; Manufacturer: N/A; Manufacturer PN: N/A; Medical Grade MFR: N/A; Medical Grade MFR PN: N/A; Rating: N/A; Thickness (mm): N/A; Width (mm): TBD; Package Description: FT pad; Status: *; Review: *
footprint FEEDHOLE_20mil (Feedthrough hole 20mil)
pins: 1

## HOLE_UNPLATED
designator X?, comment HOLE, UNPLATED  (no BOM)
Status: *; Review: *
footprint HOLE_UNPLATED_3.5MM

## IND_DNP_0402
designator L?, comment DNP
DNP: Inductor, DNP, 0402; PCB Footprint: ind0402_reduced; Review: 020823; Value: DNP; Length (mm): 1.11; Manufacturer: N/A; Manufacturer PN: N/A; Medical Grade MFR: N/A; Medical Grade MFR PN: N/A; Rating: N/A; Thickness (mm): 0.65; Width (mm): 0.66; Category: Inductor; Package Description: 0402; Status: Approved
simulation model INDUCTOR (Inductor)
signal-integrity model Inductor
footprint L0402_C (Chip Inductor, 2-Leads, Body 1.00x0.50mm, IPC High Density)
pins: 1, 2

## IP4220CZ6F
designator D?
TVS DIODE 5.5VWM 6TSOP; Manufacturer: Nexperia; RoHS Compliant: Yes; Manufacturer Part Number: IP4220CZ6F; Supplier 1: Digikey; Supplier Part Number 1: 1727-2751-1-ND
footprint FP-SOT457-IPC_A
pins: 1 I/O1 (io), 2 GND (power), 3 I/O2 (io), 4 I/O3 (io), 5 VP (power), 6 I/O4 (io)

## ISL23315TFRUZ-T7A
designator U?  Manufacturer: Renesas
Digital potentiometer, 256 taps, 100k, I2C, QFN-10; Medical Grade MFR: TBD; Category: IC; Length (mm): 2.10; Medical Grade MFR PN: TBD; Package Description: TBD; PCB Footprint: TBD; Rating: TBD; Thickness (mm): 0.55; Value: ISL23315TFRUZ-T7A; Width (mm): 1.60; Supplier 1: Digi-Key; Supplier Part Number 1: ISL23315TFRUZ-T7ACT-ND; Status: *; Review: *; Manufacturer Part Number: ISL23315TFRUZ-T7A
footprint RENESAS_L10.2.1X1.6A_UTQFN10
pins: 1 SCL, 2 SDA, 3 A0 (in), 4 A1 (in), 5 RL, 6 RW, 7 RH, 8 VCC, 9 GND (power), 10 VLOGIC

## LED GREEN CLEAR SMD 0603
designator D?, comment LTST-C191TGKT  value GREEN LED
LED, GREEN, SMD, 0603, 3.2V, 20mA; Manufacturer: Lite-On Inc.; Power Rating: 76mW; Wavelength: 525nm; Category: LED; Manufacturer Part Number: LTST-C191TGKT; Size Code: 0603; Supplier: Digi-Key; Supplier Part Number: 160-1888-2-ND; Height: 0.55mm; Width: 0.80mm; Length: 1.60mm; Forward Voltage: 3.2V; Forward Current: 20mA; Supplier 1: Digikey; Supplier Part Number 1: 160-1888-2-ND
footprint LEDC0603
pins: A, K

## LED ORANGE CLEAR SMD 0603
designator D?, comment LTST-C191KFKT  value ORANGE LED
LED, ORANGE, SMD, 0603, 2V, 30mA; Manufacturer: Lite-On Inc.; Power Rating: 75mW; Wavelength: 605nm; Category: LED; Manufacturer Part Number: LTST-C191KFKT; Size Code: 0603; Supplier: Digi-Key; Supplier Part Number: 160-1445-2-ND; Height: 0.55mm; Width: 0.80mm; Length: 1.60mm; Forward Voltage: 2V; Forward Current: 30mA; Supplier 1: Digikey; Supplier Part Number 1: 160-1445-2-ND
footprint LEDC0603
pins: A, K

## LED RED CLEAR SMD 0603
designator D?, comment LTST-C191KRKT  value RED LED
LED, RED, SMD, 0603, 2V, 30mA; Manufacturer: Lite-On Inc.; Power Rating: 75mW; Wavelength: 631nm; Category: LED; Manufacturer Part Number: LTST-C191KRKT; Size Code: 0603; Supplier: Digi-Key; Supplier Part Number: 160-1447-2-ND; Height: 0.55mm; Width: 0.80mm; Length: 1.60mm; Forward Voltage: 2V; Forward Current: 30mA; Supplier 1: Digikey; Supplier Part Number 1: 160-1447-2-ND
footprint LEDC0603
pins: A, K

## LQG15HS33NJ02D
designator L?  value 33nH  (hidden comment: LQG15HS33NJ02D)
Inductor, Unshielded, 33nH, 350mA, 0402; Manufacturer: Murata; Medical Grade MFR: TBD; Review: 020823; Category: Inductor; Length (mm): TBD; Medical Grade MFR PN: TBD; Thickness (mm): TBD; Width (mm): TBD; PCB Footprint: TBD; Supplier 1: Arrow Electronics; Supplier Part Number 1: LQG15HS33NJ02D; Status: Approved; Manufacturer Part Number: LQG15HS33NJ02D
footprint L0402_C (Chip Inductor, 2-Leads, Body 1.00x0.50mm, IPC High Density)
pins: 1, 2

## LQW15AN1N8C00D
designator L?  value 1.8nH  Current Rating: 0.46 A  DC Resistance: 160 mOhms  (hidden comment: LQW15AN1N8C00D)
Inductor, 1.8nH, 0.46A, Tolerance 0.2 nH, 0402; Manufacturer: Murata; Medical Grade Manufacturer: TBD; Tolerance: 0.2 nH; Shielding: Unshielded; Category: Inductor; Temperature Coefficient: -; Manufacturer Part Number: LQW15AN1N8C00D; Medical Grade Manufacturer Part Number: TBD; Size Code: 0402; Supplier: TBD; Supplier Part Number: TBD; Height: 0.5mm; Width: 0.6mm; Length: 1mm; Current Saturation: -; Supplier 1: Mouser; Supplier Part Number 1: 81-LQW15AN1N8C00D; Supplier 2: Digikey; Supplier Part Number 2: 490-14479-1-ND; Supplier 3: Digikey; Supplier Part Number 3: 490-14479-6-ND; Supplier 4: Digikey; Supplier Part Number 4: 490-14479-2-ND
footprint L0402_C (Chip Inductor, 2-Leads, Body 1.00x0.50mm, IPC High Density)
pins: 1, 2